# Altium footprint library B82790.PcbLib: 1 footprints
Each footprint in its own frame and in the unit in brackets; x right, y up, seen from the top. Pads: shape width x height; smd on the part's side, far side on the other; paste and mask are expansions set on the pad; w line width, h text height; cw(c..) or ccw(c..) is an arc to the next point about the centre after c.
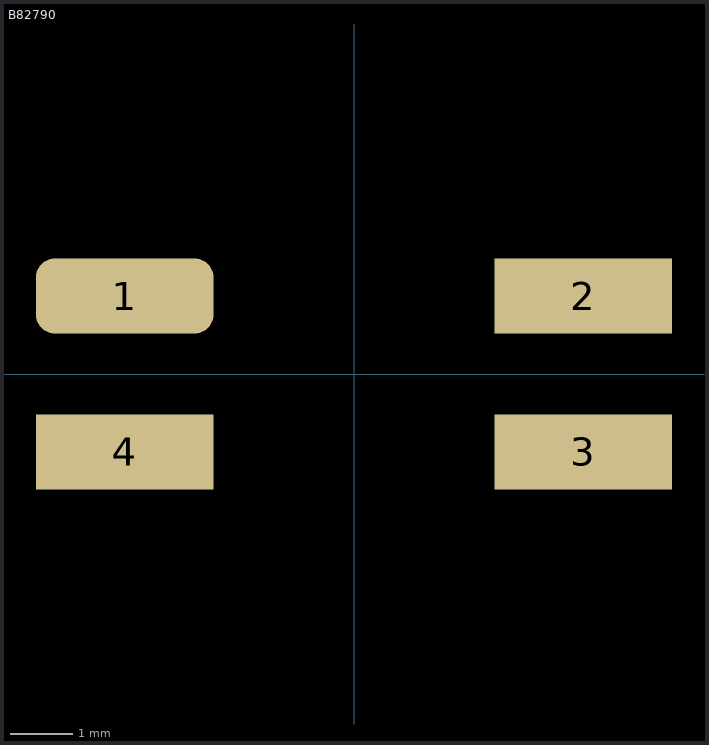
[diagram p0: the footprint, top view; thin cyan lines are the x and y axes]

## B82790 [mm] "SMD common-mode chokes"
height 5
pads (4):
  rrect50% 2.85x1.2 smd: 1(-3.675,1.25)
  rect 2.85x1.2 smd: 2(3.675,1.25) 3(3.675,-1.25) 4(-3.675,-1.25)
3D body "B82790.step": height 5.1, standoff 0, extent -4.5,-3 4.5,3